# EAGLE library part TJA1048 (library nxp)
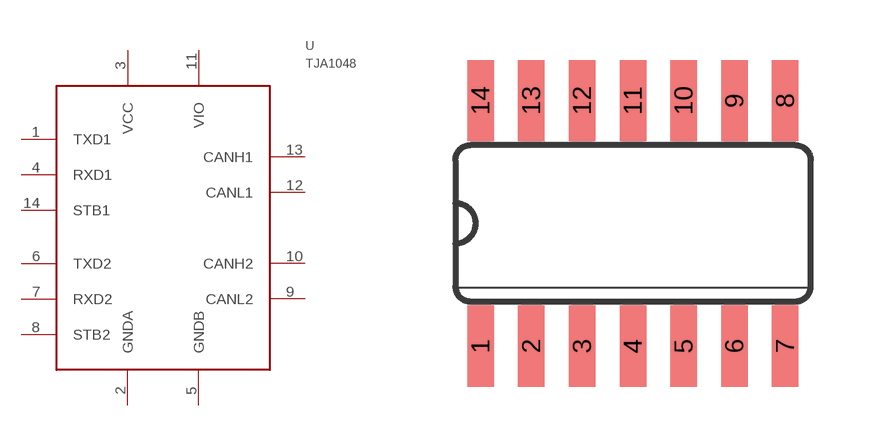
[diagram p1: symbol with the pads of SO14; footprint SO14]

Designator prefix -

## TJA1048SO14  [SO14]
1  TXD1
2  GNDA
3  VCC
4  RXD1
5  GNDB
6  TXD2
7  RXD2
8  STB2
9  CANL2
10  CANH2
11  VIO
12  CANL1
13  CANH1
14  STB1

## Footprint SO14 (pad centres in mm)
smd 0.66 x 2.032: 1 -3.81,-3.073; 2 -2.54,-3.073; 3 -1.27,-3.073; 4 0,-3.073; 5 1.27,-3.073; 6 2.54,-3.073; 7 3.81,-3.073; 8 3.81,3.073; 9 2.54,3.073; 10 1.27,3.073; 11 0,3.073; 12 -1.27,3.073; 13 -2.54,3.073; 14 -3.81,3.073